# Altium footprint library IC.PcbLib: 15 footprints
Each footprint in its own frame and in the unit in brackets; x right, y up, seen from the top. Pads: shape width x height; smd on the part's side, far side on the other; paste and mask are expansions set on the pad; w line width, h text height; cw(c..) or ccw(c..) is an arc to the next point about the centre after c.
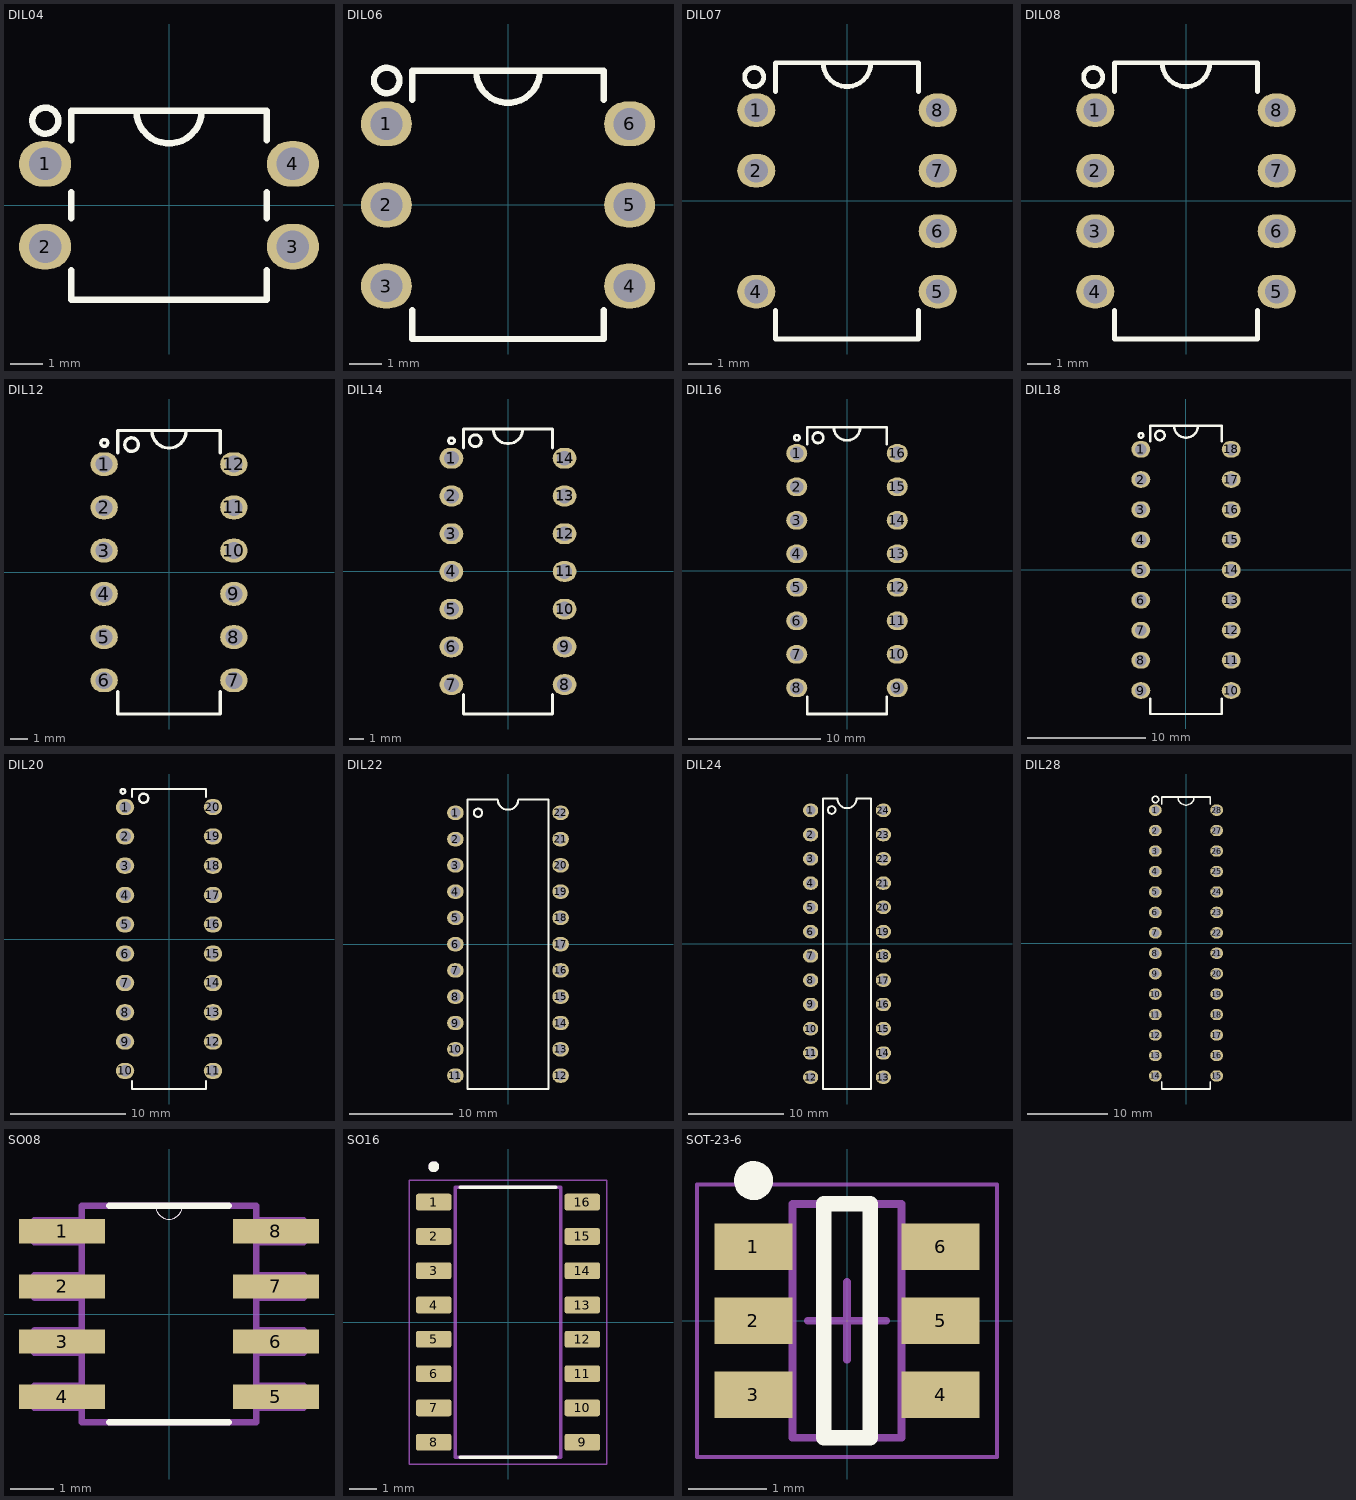
[diagram p0: the footprints below, top view; thin cyan lines are the x and y axes]

## DIL04 [mm] "BRIDGE DIODE, DIP, pitch 2.54mm, 300mil Width"
pads (4):
  oval 1.6x1.4 / inner round 1.4 / far side oval 2.2x1.4 hole 1: 1(-3.81,1.27) 2(-3.81,-1.27) 3(3.81,-1.27) 4(3.81,1.27)
Top Overlay:
  circle w0.2: c-3.8,2.6 r0.4
  lines w0.2: -3,-2 -3,-2.9 3,-2.9 3,-2 ; -3,-0.4 -3,0.4 ; -3,2 -3,2.9 3,2.9 3,2 ; -1,2.9 ccw(c0,2.9) 1,2.9 ; 3,-0.4 3,0.4
3D body "CircuitWorks-DIP4.step": height 4.31, standoff -3.28, extent -4,-2.77 4,2.77

## DIL06 [mm] "DIP, pitch 2.54mm, 300mil Width"
pads (6):
  oval 1.6x1.4 / inner round 1.4 / far side oval 2.2x1.4 hole 1: 1(-3.81,2.54) 2(-3.81,0) 3(-3.81,-2.54) 4(3.81,-2.54) 5(3.81,0) 6(3.81,2.54)
Top Overlay:
  circle w0.2: c-3.8,3.9 r0.4
  lines w0.2: -3,-3.3 -3,-4.2 3,-4.2 3,-3.3 ; -3,3.3 -3,4.2 3,4.2 3,3.3 ; -1,4.2 ccw(c0,4.2) 1,4.2
3D body "CircuitWorks-DIP6.step": height 4.31, standoff -3.28, extent -4,-4.04 4,4.04

## DIL07 [mm] "DIP, pitch 2.54mm, 300mil Width"
pads (7):
  oval 1.6x1.4 / inner round 1.4 / far side oval 2.2x1.4 hole 1: 1(-3.81,3.81) 2(-3.81,1.27) 4(-3.81,-3.81) 5(3.81,-3.81) 6(3.81,-1.27) 7(3.81,1.27) 8(3.81,3.81)
Top Overlay:
  circle w0.2: c-3.9,5.2 r0.4
  lines w0.2: -3,-4.6 -3,-5.8 3,-5.8 3,-4.6 ; -3,4.6 -3,5.8 3,5.8 3,4.6 ; -1,5.8 ccw(c0,5.8) 1,5.8
3D body "CircuitWorks-DIP8.step": height 4.19, standoff -2.67, extent -3.937,-5.7 3.937,5.73

## DIL08 [mm] "DIP, pitch 2.54mm, 300mil Width"
pads (8):
  oval 1.6x1.4 / inner round 1.4 / far side oval 2.2x1.4 hole 1: 1(-3.81,3.81) 2(-3.81,1.27) 3(-3.81,-1.27) 4(-3.81,-3.81) 5(3.81,-3.81) 6(3.81,-1.27) 7(3.81,1.27) 8(3.81,3.81)
Top Overlay:
  circle w0.2: c-3.9,5.2 r0.4
  lines w0.2: -3,-4.6 -3,-5.8 3,-5.8 3,-4.6 ; -3,4.6 -3,5.8 3,5.8 3,4.6 ; -1,5.8 ccw(c0,5.8) 1,5.8
3D body "CircuitWorks-DIP8.step": height 4.19, standoff -2.67, extent -3.937,-5.7 3.937,5.73

## DIL12 [mm] "DIP, pitch 2.54mm, 300mil Width"
pads (12):
  oval 1.6x1.4 / inner round 1.4 / far side oval 2.2x1.4 hole 1: 1(-3.81,6.35) 2(-3.81,3.81) 3(-3.81,1.27) 4(-3.81,-1.27) 5(-3.81,-3.81) 6(-3.81,-6.35) 7(3.81,-6.35) 8(3.81,-3.81) 9(3.81,-1.27) 10(3.81,1.27) 11(3.81,3.81) 12(3.81,6.35)
Top Overlay:
  circle w0.2: c-3.8,7.6 r0.2
  circle w0.2: c-2.2,7.5 r0.4
  lines w0.2: -3,-7.03 -3,-8.33 3,-8.33 3,-7.03 ; -3,7.03 -3,8.33 3,8.33 3,7.03 ; -1,8.3 ccw(c0,8.3) 1,8.3

## DIL14 [mm] "DIP, pitch 2.54mm, 300mil Width"
pads (14):
  oval 1.6x1.4 / inner round 1.4 / far side oval 2.2x1.4 hole 1: 1(-3.81,7.62) 2(-3.81,5.08) 3(-3.81,2.54) 4(-3.81,0) 5(-3.81,-2.54) 6(-3.81,-5.08) 7(-3.81,-7.62) 8(3.81,-7.62) 9(3.81,-5.08) 10(3.81,-2.54) 11(3.81,0) 12(3.81,2.54) 13(3.81,5.08) 14(3.81,7.62)
Top Overlay:
  circle w0.2: c-2.2,8.8 r0.4
  circle w0.2: c-3.8,8.8 r0.2
  lines w0.2: -3,-8.3 -3,-9.6 3,-9.6 3,-8.3 ; -3,8.3 -3,9.6 3,9.6 3,8.3 ; -1,9.6 ccw(c0,9.6) 1,9.6
3D body "CircuitWorks-DIP-14.step": height 3.81, standoff -3.17, extent -4,-9.525 4,9.525

## DIL16 [mm] "DIP, pitch 2.54mm, 300mil Width"
pads (16):
  oval 1.6x1.4 / inner round 1.4 / far side oval 2.2x1.4 hole 1: 1(-3.81,8.89) 2(-3.81,6.35) 3(-3.81,3.81) 4(-3.81,1.27) 5(-3.81,-1.27) 6(-3.81,-3.81) 7(-3.81,-6.35) 8(-3.81,-8.89) 9(3.81,-8.89) 10(3.81,-6.35) 11(3.81,-3.81) 12(3.81,-1.27) 13(3.81,1.27) 14(3.81,3.81) 15(3.81,6.35) 16(3.81,8.89)
Top Overlay:
  circle w0.2: c-2.2,10.07 r0.4
  circle w0.2: c-3.8,10.07 r0.2
  lines w0.2: -3,-9.57 -3,-10.87 3,-10.87 3,-9.57 ; -3,9.57 -3,10.87 3,10.87 3,9.57 ; -1,10.87 ccw(c0,10.87) 1,10.87
3D body "CircuitWorks-DIP 16 IC.step": height 5.1, standoff -3.3, extent -3.935,-10 3.935,10

## DIL18 [mm] "DIP, pitch 2.54mm, 300mil Width"
pads (18):
  oval 1.6x1.4 / inner round 1.4 / far side oval 2.2x1.4 hole 1: 1(-3.81,10.16) 2(-3.81,7.62) 3(-3.81,5.08) 4(-3.81,2.54) 5(-3.81,0) 6(-3.81,-2.54) 7(-3.81,-5.08) 8(-3.81,-7.62) 9(-3.81,-10.16) 10(3.81,-10.16) 11(3.81,-7.62) 12(3.81,-5.08) 13(3.81,-2.54) 14(3.81,0) 15(3.81,2.54) 16(3.81,5.08) 17(3.81,7.62) 18(3.81,10.16)
Top Overlay:
  circle w0.2: c-2.2,11.34 r0.4
  circle w0.2: c-3.8,11.34 r0.2
  lines w0.2: -3,-10.84 -3,-12.14 3,-12.14 3,-10.84 ; -3,10.84 -3,12.14 3,12.14 3,10.84 ; -1,12.14 ccw(c0,12.14) 1,12.14
3D body "User Library-DIP18-300.step": height 5.08, standoff -2.49, extent -3.935,-11.495 3.935,11.495

## DIL20 [mm] "DIP, pitch 2.54mm, 300mil Width"
pads (20):
  oval 1.6x1.4 / inner round 1.4 / far side oval 2.2x1.4 hole 1: 1(-3.81,11.43) 2(-3.81,8.89) 3(-3.81,6.35) 4(-3.81,3.81) 5(-3.81,1.27) 6(-3.81,-1.27) 7(-3.81,-3.81) 8(-3.81,-6.35) 9(-3.81,-8.89) 10(-3.81,-11.43) 11(3.81,-11.43) 12(3.81,-8.89) 13(3.81,-6.35) 14(3.81,-3.81) 15(3.81,-1.27) 16(3.81,1.27) 17(3.81,3.81) 18(3.81,6.35) 19(3.81,8.89) 20(3.81,11.43)
Top Overlay:
  circle w0.2: c-4,12.8 r0.2
  circle w0.2: c-2.2,12.2 r0.4
  lines w0.2: -3.2,-12.3 -3.2,-13 3.2,-13 3.2,-12.3 ; -3.2,12.3 -3.2,13 3.2,13 3.2,12.3
3D body "User Library-20 pin dip.step": height 5.05, standoff -1.17, extent -3.937,-12.89 3.937,12.891

## DIL22 [mm] "DIP, pitch 2.54mm, 400mil Width, 28X10mm"
pads (22):
  oval 1.6x1.4 / inner round 1.4 / far side oval 2.2x1.4 hole 1: 1(-5.08,12.7) 2(-5.08,10.16) 3(-5.08,7.62) 4(-5.08,5.08) 5(-5.08,2.54) 6(-5.08,0) 7(-5.08,-2.54) 8(-5.08,-5.08) 9(-5.08,-7.62) 10(-5.08,-10.16) 11(-5.08,-12.7) 12(5.08,-12.7) 13(5.08,-10.16) 14(5.08,-7.62) 15(5.08,-5.08) 16(5.08,-2.54) 17(5.08,0) 18(5.08,2.54) 19(5.08,5.08) 20(5.08,7.62) 21(5.08,10.16) 22(5.08,12.7)
Top Overlay:
  circle w0.2: c-2.9,12.7 r0.4
  lines w0.2: -3.9,-14 -3.9,14 -1,14 ccw(c0,14) 1,14 3.9,14 3.9,-14 -3.9,-14

## DIL24 [mm] "DIP, pitch 2.54mm, 300mil Width"
pads (24):
  oval 1.6x1.4 / inner round 1.4 / far side oval 2.2x1.4 hole 1: 1(-3.81,13.97) 2(-3.81,11.43) 3(-3.81,8.89) 4(-3.81,6.35) 5(-3.81,3.81) 6(-3.81,1.27) 7(-3.81,-1.27) 8(-3.81,-3.81) 9(-3.81,-6.35) 10(-3.81,-8.89) 11(-3.81,-11.43) 12(-3.81,-13.97) 13(3.81,-13.97) 14(3.81,-11.43) 15(3.81,-8.89) 16(3.81,-6.35) 17(3.81,-3.81) 18(3.81,-1.27) 19(3.81,1.27) 20(3.81,3.81) 21(3.81,6.35) 22(3.81,8.89) 23(3.81,11.43) 24(3.81,13.97)
Top Overlay:
  circle w0.2: c-1.6,14 r0.4
  lines w0.2: -2.5,-15.2 -2.5,15.2 -1,15.2 ccw(c0,15.2) 1,15.2 2.5,15.2 2.5,-15.2 -2.5,-15.2

## DIL28 [mm] "DIP, pitch 2.54mm, 300mil Width"
pads (28):
  oval 1.6x1.4 / inner round 1.4 / far side oval 2.2x1.4 hole 1: 1(-3.81,16.51) 2(-3.81,13.97) 3(-3.81,11.43) 4(-3.81,8.89) 5(-3.81,6.35) 6(-3.81,3.81) 7(-3.81,1.27) 8(-3.81,-1.27) 9(-3.81,-3.81) 10(-3.81,-6.35) 11(-3.81,-8.89) 12(-3.81,-11.43) 13(-3.81,-13.97) 14(-3.81,-16.51) 15(3.81,-16.51) 16(3.81,-13.97) 17(3.81,-11.43) 18(3.81,-8.89) 19(3.81,-6.35) 20(3.81,-3.81) 21(3.81,-1.27) 22(3.81,1.27) 23(3.81,3.81) 24(3.81,6.35) 25(3.81,8.89) 26(3.81,11.43) 27(3.81,13.97) 28(3.81,16.51)
Top Overlay:
  circle w0.2: c-3.8,17.84 r0.4
  lines w0.2: -3,-17.24 -3,-18.14 3,-18.14 3,-17.24 ; -3,17.24 -3,18.14 3,18.14 3,17.24 ; -1,18.14 ccw(c0,18.14) 1,18.14
3D body "User Library-DIP28-300.step": height 5.08, standoff -2.49, extent -3.935,-18 3.935,18

## SO08 [mil]
pads (8):
  rect 78x22 smd: 1(-97,75) 2(-97,25) 3(-97,-25) 4(-97,-75) 5(97,-75) 6(97,-25) 7(97,25) 8(97,75)
Top Overlay:
  lines w0: -12,98 ccw(c0,98) 12,98
  lines w6: -54,-98 54,-98 ; -54,98 -12,98 12,98 54,98
Mechanical 13:
  lines w0: -12,98 ccw(c0,98) 12,98
  lines w6: -122,-85 -122,-65 -79,-65 -79,-85 -122,-85 ; -122,-35 -122,-15 -79,-15 -79,-35 -122,-35 ; -122,15 -122,35 -79,35 -79,15 -122,15 ; -122,65 -122,85 -79,85 -79,65 -122,65 ; -79,-98 79,-98 79,98 12,98 -12,98 -79,98 -79,-98 ; 79,-85 79,-65 122,-65 122,-85 79,-85 ; 79,-35 79,-15 122,-15 122,-35 79,-35 ; 79,15 79,35 122,35 122,15 79,15 ; 79,65 79,85 122,85 122,65 79,65
3D body "STM32G031J6M6.STEP": height 68.9, standoff 0, extent -113.1,-96.45 123.12,96.46

## SO16 [mm]
height 1.8
pads (16):
  rrect25% 1.31x0.62 smd: 1(-2.75,4.445) 2(-2.75,3.175) 3(-2.75,1.905) 4(-2.75,0.635) 5(-2.75,-0.635) 6(-2.75,-1.905) 7(-2.75,-3.175) 8(-2.75,-4.445) 9(2.75,-4.445) 10(2.75,-3.175) 11(2.75,-1.905) 12(2.75,-0.635) 13(2.75,0.635) 14(2.75,1.905) 15(2.75,3.175) 16(2.75,4.445)
Top Overlay:
  circle w0.2: c-2.75,5.755 r0.1
  lines w0.127: -1.775,-5 1.775,-5 ; -1.775,5 1.775,5
Mechanical 13:
  circle w0.2: c-2.75,5.755 r0.1
  lines w0.127: -1.95,-5 -1.95,5 1.95,5 1.95,-5 -1.95,-5
Mechanical 15:
  lines w0.05: -3.655,-5.25 -3.655,5.25 3.655,5.25 3.655,-5.25 -3.655,-5.25
3D body "step_temp.STEP": height 1.8, standoff 0, extent -3,-5 3,5

## SOT-23-6 [mm] "SOT23, 6-Leads, Body 2.90x2.45mm, Pitch 0.95mm, IPC Medium Density"
height 1.1
pads (6):
  rect 1x0.6 smd: 1(-1.2,0.95) 2(-1.2,0) 3(-1.2,-0.95) 4(1.2,-0.95) 5(1.2,0) 6(1.2,0.95)
Top Overlay:
  circle w0.25: c-1.2,1.8 r0.125
  lines w0.2: -0.3,-1.5 -0.3,1.5 0.3,1.5 0.3,-1.5 -0.3,-1.5
Mechanical 13:
  lines w0.1: -0.7,-1.5 0.7,-1.5 0.7,1.5 -0.7,1.5 -0.7,-1.5
Mechanical 15:
  lines w0.05: -1.925,-1.75 1.925,-1.75 1.925,1.75 -1.925,1.75 -1.925,-1.75
  lines w0.1: -0.5,0 0.5,0 ; 0,-0.5 0,0.5
3D body: height 1.1, standoff 0.05, extent -0.7,-1.5 0.7,1.5